# EAGLE library part RM24C32C (library ICs)
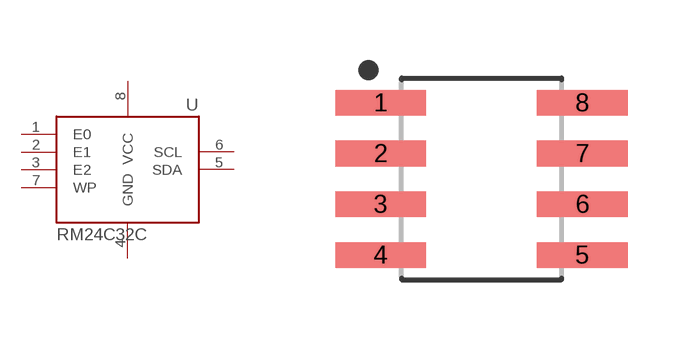
[diagram p2: symbol with the pads of SOIC-8; footprint SOIC-8]

Designator prefix -

## RM24C32C-BSNC-T  [SOIC-8]
1  E0
2  E1
3  E2
4  GND
5  SDA
6  SCL
7  WP
8  VCC

## Footprint SOIC-8 (pad centres in mm)
8-SOIC, 1.27 mm pitch, 6.00 mm span, 4.92 X 3.90 X 1.75 mm body 8-pin SOIC package with 1.27 mm pitch, 6.00 mm span with body size 4.92 X 3.90 X 1.75 mm
smd 2.268 x 0.642: 1 -2.523,1.905; 2 -2.523,0.635; 3 -2.523,-0.635; 4 -2.523,-1.905; 5 2.523,-1.905; 6 2.523,-0.635; 7 2.523,0.635; 8 2.523,1.905